# EAGLE library part RIBBON-1X6-SMD (library eDNA)
6 Position, SMD, Ribbon connector https://www.digikey.com/product-detail/en/amphenol-icc-fci/SFW6R-4STE1LF/609-1892-1-ND/1003246
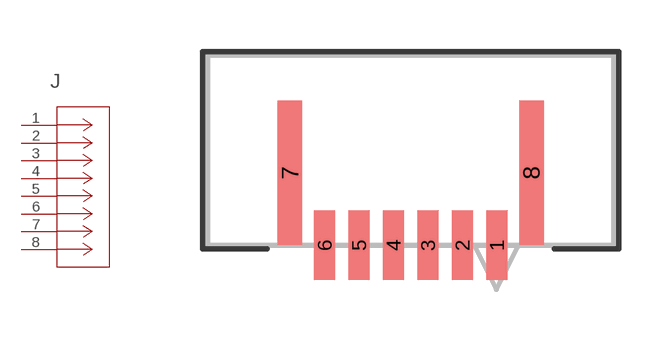
[diagram p15: symbol with the pads of CON6_1X6_DRB_SFW; footprint CON6_1X6_DRB_SFW]

Designator prefix J

## RIBBON-1X6-SMD (MANUFACTURER_PART_NUMBER: SFW6R4STE1LF; VENDOR: FCI)  [CON6_1X6_DRB_SFW]
1  1  pas
2  2  pas
3  3  pas
4  4  pas
5  5  pas
6  6  pas
7  7  pas
8  8  pas

## Footprint CON6_1X6_DRB_SFW (pad centres in mm)
smd 0.61 x 2.007: 1 2.5,2.756; 2 1.5,2.756; 3 0.5,2.756; 4 -0.5,2.756; 5 -1.5,2.756; 6 -2.5,2.756
smd 0.711 x 4.191: 7 -3.505,4.864; 8 3.505,4.864